# Altium schematic symbol library BiSheFinal.SCHLIB: 15 symbols
Pins are listed as number, name and electrical type; pins without a type are passive.

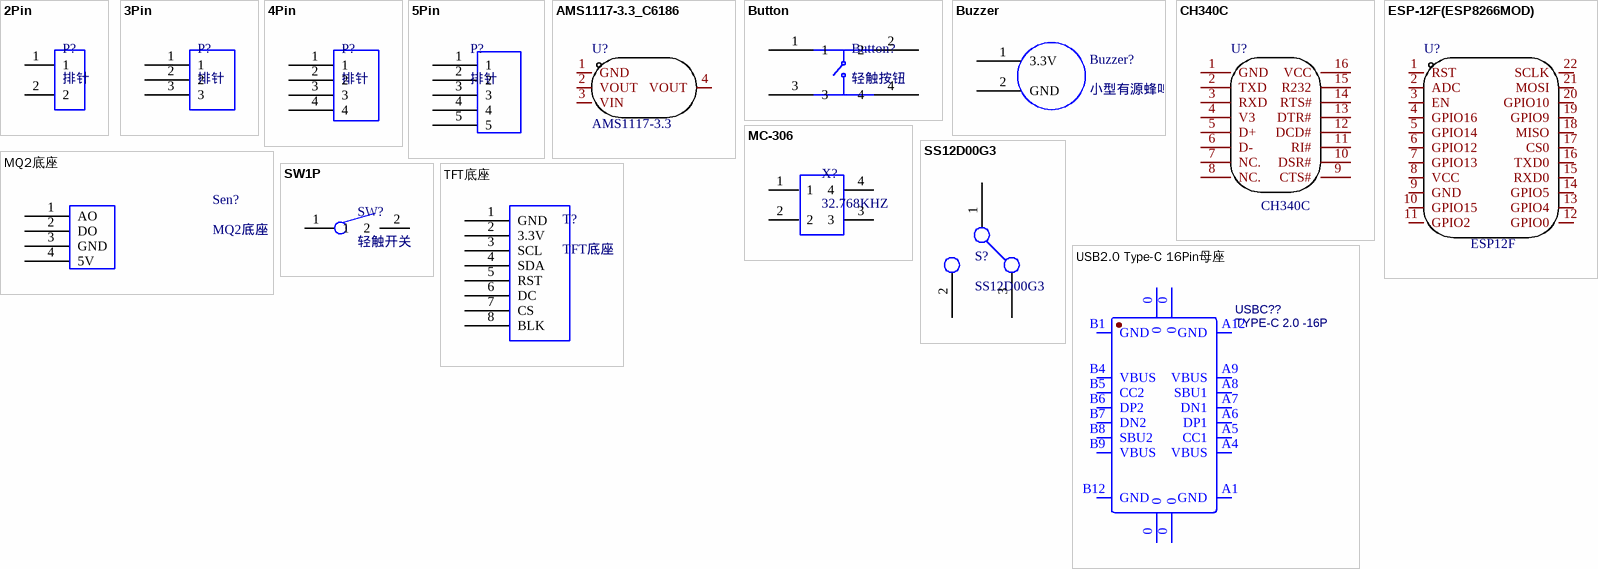
[diagram p0: symbols 2Pin to USB2.0 Type-C 16Pin母座]

## 2Pin
designator P?, comment 排针
2Pin排针
footprint 2PIN (排针)
pins: 1, 2

## 3Pin
designator P?, comment 排针
3p排针
footprint 3Pin (排针)
pins: 1, 2, 3

## 4Pin
designator P?, comment 排针
4p排针
footprint 4PIN
pins: 1, 2, 3, 4

## 5Pin
designator P?, comment 排针
5Pin排针
footprint 5pin (5PIN排针)
pins: 1, 2, 3, 4, 5

## AMS1117-3.3_C6186
designator U?, comment AMS1117-3.3
输出类型:固定;输出极性:正;最大输入电压:-;输出电压:3.3V;输出电流:1A;电源纹波抑制比(PSRR):72dB@(120Hz);; Manufacturer: AMS; Device: AMS1117-3.3_C6186; Add into BOM: yes; Output Type: 固定; Output Polarity: 正; Number of Outputs: 1; Output Voltage: 3.3V; Dropout Voltage: 1.3V@(800mA); Output Current: 1A; Symbol: AMS1117-3.3; LCSC Part Name: 正 Vout=3.3V 1A 72dB@(120Hz); Supplier Part: C6186; Manufacturer Part: AMS1117-3.3; Supplier Footprint: SOT-223; JLCPCB Part Class: Basic Part; Datasheet: https://atta.szlcsc.com/upload/public/pdf/source/20180727/C6186_7A095716F0823C02F1997A905E26C086.pdf; Supplier: LCSC; Convert to PCB: yes; Maximum Input Voltage: -; Quiescent Current (Ground Current): -; Power Supply Rejection Ratio (PSRR): 72dB@(120Hz); Noise: -; Feature: -; Operating Temperature: -; AMS1117: AMS1117-3.3
footprint SOT-223-3_L6.5-W3.4-P2.30-LS7.0-BR
pins: 1 GND, 2 VOUT, 3 VIN, 4 VOUT

## Button
designator Button?, comment 轻触按钮
6*6*7轻触按钮
footprint Button (6*6*7mm)
pins: 1, 2, 3, 4

## Buzzer
designator Buzzer?, comment 小型有源蜂鸣器
蜂鸣器
footprint Buzzer_Mini (小型蜂鸣器)
pins: 1 3.3V, 2 GND

## CH340C
designator U?
驱动器/接收器数:-;协议类别:USB 2.0;类型:Transceiver;数据速率:2Mbps;; Manufacturer: WCH(南京沁恒); Add into BOM: yes; Protocol: USB 2.0; Supply Voltage: 3.3V, 5V; Data Rate: 2Mbps; Symbol: CH340C; Device: CH340C; LCSC Part Name: CH340C; Supplier Part: C84681; Manufacturer Part: CH340C; Supplier Footprint: SOP-16_150mil; JLCPCB Part Class: Extended Part; Datasheet: https://atta.szlcsc.com/upload/public/pdf/source/20200819/C84681_ADBED554CE321879DBD6B1D06488689C.pdf; Supplier: LCSC; Convert to PCB: yes; Number of Drivers/Receivers: -; Type: Transceiver; CH340C: CH340C
footprint SOP-16_L10.0-W3.9-P1.27-LS6.0-BL
pins: 1 GND, 2 TXD, 3 RXD, 4 V3, 5 D+, 6 D-, 7 NC., 8 NC., 9 CTS#, 10 DSR#, 11 RI#, 12 DCD#, 13 DTR#, 14 RTS#, 15 R232, 16 VCC

## ESP-12F(ESP8266MOD)
designator U?, comment ESP12F
频率:2.4GHz;发射功率:16dBm;核心处理器:ESP8266;天线形式:PCB 板载天线;接收灵敏度:-90dBm;; Manufacturer: Ai-Thinker(安信可); Symbol: ESP-12F(ESP8266MOD); Add into BOM: yes; Value: 2.4GHz; Output Power: 16dBm; Support Interface: GPIO；UART；I2C；PWM；SPI；ADC; Wireless Standard: 802.11b/g/n; Operating Voltage: 3.3V; Receive  Current: 120mA; Send  Current: 170mA; Sensitivity: -90dBm; Device: ESP-12F(ESP8266MOD); LCSC Part Name: ESP-12F(ESP8266MOD); Supplier Part: C82891; Manufacturer Part: ESP-12F(ESP8266MOD); Supplier Footprint: SMD,16x24mm; JLCPCB Part Class: Extended Part; Datasheet: https://atta.szlcsc.com/upload/public/pdf/source/20210219/C82891_ABD84A460F4F056A2757267CCCA4B508.pdf; Supplier: LCSC; Convert to PCB: yes; Core Processor: ESP8266; Antenna Type: PCB 板载天线; Operating Temperature: -40℃~+85℃; ESP: ESP12F
footprint WIFIM-SMD_ESP-12F-ESP8266MOD
3D model WIFIM-SMD_WIFI-L24.0-W16.0-H3.1
pins: 1 RST, 2 ADC, 3 EN, 4 GPIO16, 5 GPIO14, 6 GPIO12, 7 GPIO13, 8 VCC, 9 GND, 10 GPIO15, 11 GPIO2, 12 GPIO0, 13 GPIO4, 14 GPIO5, 15 RXD0, 16 TXD0, 17 CS0, 18 MISO, 19 GPIO9, 20 GPIO10, 21 MOSI, 22 SCLK

## MC-306
designator X?, comment 32.768KHZ
贴片32.768KHZ
footprint MC-306
pins: 1, 2, 3, 4

## MQ2底座
designator Sen?
气体传感器
footprint MQ2底座 (底座)
pins: 1 AO, 2 DO, 3 GND, 4 5V

## SS12D00G3
designator S?
拨动开关
footprint SS12D00G3 (拨动开关)
pins: 1, 2, 3

## SW1P
designator SW?, comment 轻触开关
单刀单掷清除开关
footprint SW1P (轻触开关)
pins: 1, 2

## TFT底座
designator T?
底座
footprint TFT底座 (底座)
pins: 1 GND, 2 3.3V, 3 SCL, 4 SDA, 5 RST, 6 DC, 7 CS, 8 BLK

## USB2.0 Type-C 16Pin母座
designator USBC??, comment TYPE-C 2.0 -16P
USB2.0 Type-C 母座 16Pin; BOM_Supplier: LCSC; BOM_Manufacturer Part: -; spiceSymbolName: TYPE-C 3.1 -16P_C168689
footprint USB-C-SMD_TYPE-C-USB-5
pins: 0, 0, 0, 0, A1 GND, A4 VBUS, A5 CC1, A6 DP1, A7 DN1, A8 SBU1, A9 VBUS, A12 GND, B1 GND, B4 VBUS, B5 CC2, B6 DP2, B7 DN2, B8 SBU2, B9 VBUS, B12 GND